# EAGLE library part IR2301 (library X893)
http://www.terraelectronica.ru/pdf/IR/IR2301.pdf
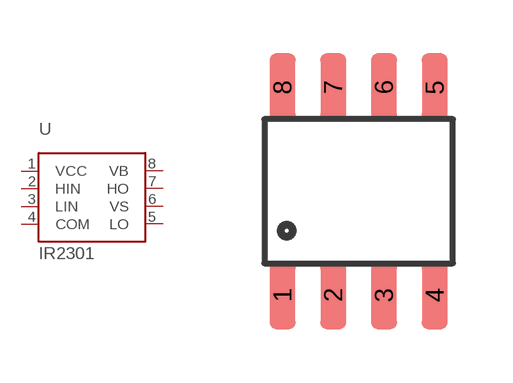
[diagram p176: symbol with the pads of SO08; footprint SO08]

Designator prefix U

## IR2301S  [SO08]
1  VCC
2  HIN
3  LIN
4  COM
5  LO
6  VS
7  HO
8  VB

## Footprint SO08 (pad centres in mm)
Small Outline Package Fits JEDEC packages (narrow SOIC-8)
smd 0.65 x 1.7: 1 -1.905,-2.6; 2 -0.635,-2.6; 3 0.635,-2.6; 4 1.905,-2.6; 5 1.905,2.6; 6 0.635,2.6; 7 -0.635,2.6; 8 -1.905,2.6